# Altium schematic symbol library SCH - MCU - STM32 - ST MICROELECTRONICS STM32G484MEYX WLCSP81.SchLib: 1 symbol
Pins are listed as number, name and electrical type; pins without a type are passive.

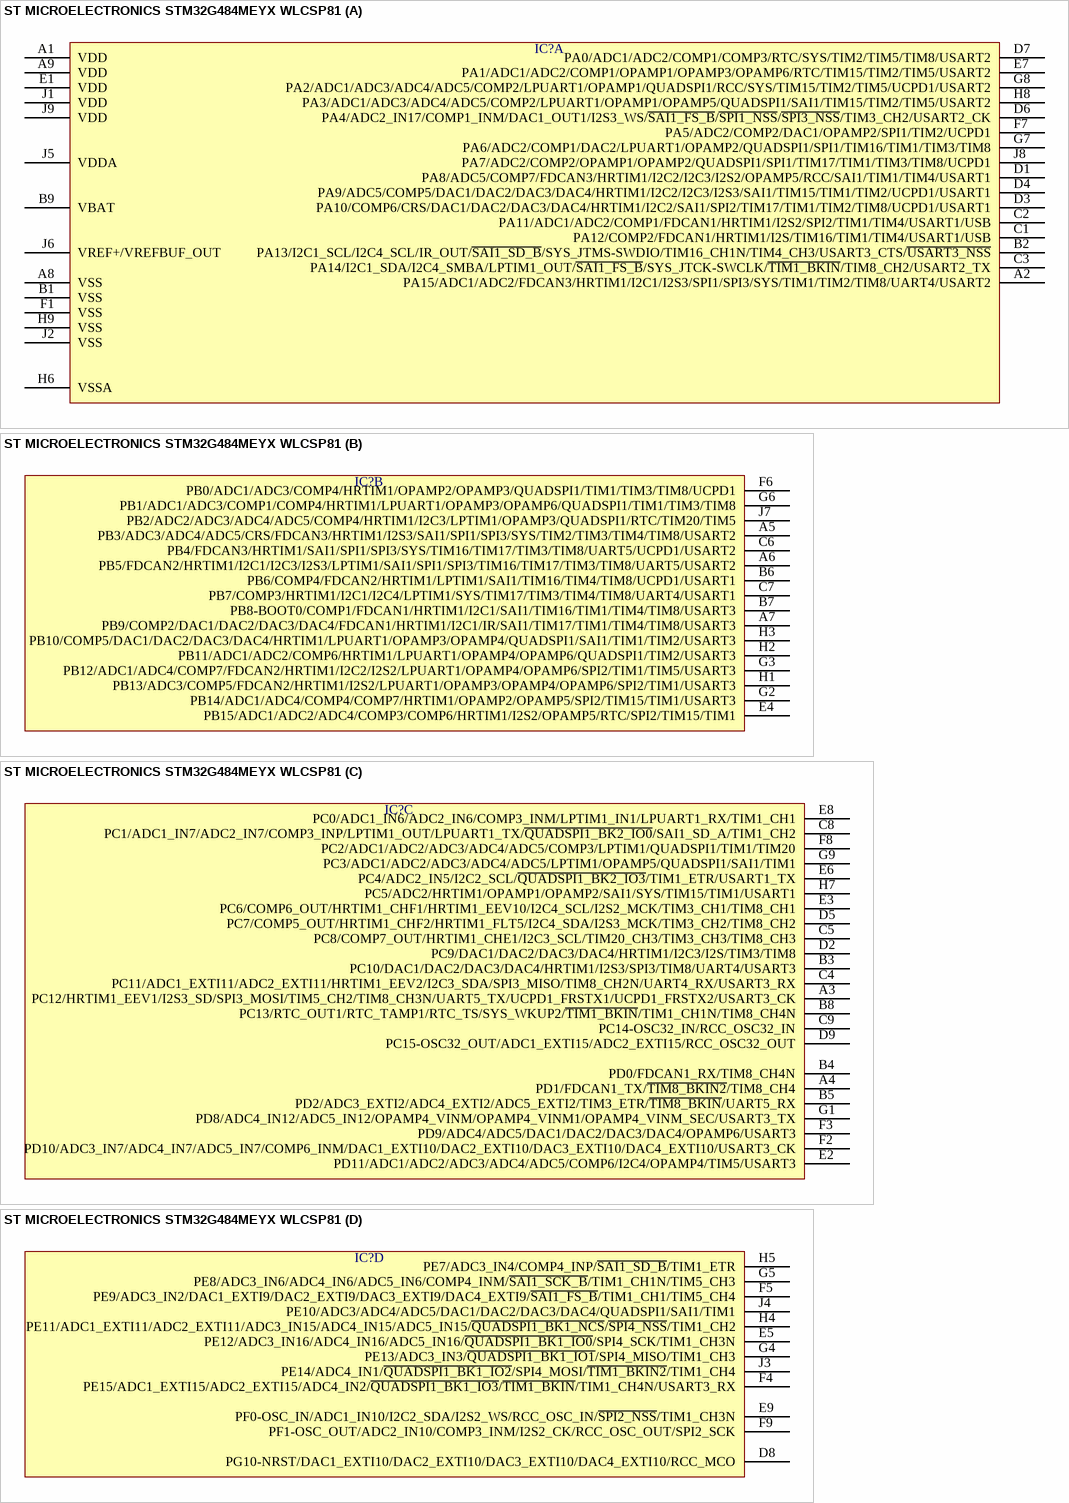
[diagram p0: symbol ST MICROELECTRONICS STM32G484MEYX WLCSP81]

## ST MICROELECTRONICS STM32G484MEYX WLCSP81
designator IC?  (value not drawn)
part A pins: A1 VDD, A2 PA15/ADC1/ADC2/FDCAN3/HRTIM1/I2C1/I2S3/SPI1/SPI3/SYS/TIM1/TIM2/TIM8/UART4/USART2, A8 VSS, A9 VDD, B1 VSS, B2 PA13/I2C1_SCL/I2C4_SCL/IR_OUT/~{SAI1_SD_B}/SYS_JTMS-SWDIO/TIM16_CH1N/TIM4_CH3/USART3_CTS/~{USART3_NSS}, B9 VBAT, C1 PA12/COMP2/FDCAN1/HRTIM1/I2S/TIM16/TIM1/TIM4/USART1/USB, C2 PA11/ADC1/ADC2/COMP1/FDCAN1/HRTIM1/I2S2/SPI2/TIM1/TIM4/USART1/USB, C3 PA14/I2C1_SDA/I2C4_SMBA/LPTIM1_OUT/~{SAI1_FS_B}/SYS_JTCK-SWCLK/~{TIM1_BKIN}/TIM8_CH2/USART2_TX, D1 PA8/ADC5/COMP7/FDCAN3/HRTIM1/I2C2/I2C3/I2S2/OPAMP5/RCC/SAI1/TIM1/TIM4/USART1, D3 PA10/COMP6/CRS/DAC1/DAC2/DAC3/DAC4/HRTIM1/I2C2/SAI1/SPI2/TIM17/TIM1/TIM2/TIM8/UCPD1/USART1, D4 PA9/ADC5/COMP5/DAC1/DAC2/DAC3/DAC4/HRTIM1/I2C2/I2C3/I2S3/SAI1/TIM15/TIM1/TIM2/UCPD1/USART1, D6 PA4/ADC2_IN17/COMP1_INM/DAC1_OUT1/I2S3_WS/~{SAI1_FS_B}/~{SPI1_NSS}/~{SPI3_NSS}/TIM3_CH2/USART2_CK, D7 PA0/ADC1/ADC2/COMP1/COMP3/RTC/SYS/TIM2/TIM5/TIM8/USART2, E1 VDD, E7 PA1/ADC1/ADC2/COMP1/OPAMP1/OPAMP3/OPAMP6/RTC/TIM15/TIM2/TIM5/USART2, F1 VSS, F7 PA5/ADC2/COMP2/DAC1/OPAMP2/SPI1/TIM2/UCPD1, G7 PA6/ADC2/COMP1/DAC2/LPUART1/OPAMP2/QUADSPI1/SPI1/TIM16/TIM1/TIM3/TIM8, G8 PA2/ADC1/ADC3/ADC4/ADC5/COMP2/LPUART1/OPAMP1/QUADSPI1/RCC/SYS/TIM15/TIM2/TIM5/UCPD1/USART2, H6 VSSA, H8 PA3/ADC1/ADC3/ADC4/ADC5/COMP2/LPUART1/OPAMP1/OPAMP5/QUADSPI1/SAI1/TIM15/TIM2/TIM5/USART2, H9 VSS, J1 VDD, J2 VSS, J5 VDDA, J6 VREF+/VREFBUF_OUT, J8 PA7/ADC2/COMP2/OPAMP1/OPAMP2/QUADSPI1/SPI1/TIM17/TIM1/TIM3/TIM8/UCPD1, J9 VDD
part B pins: A5 PB3/ADC3/ADC4/ADC5/CRS/FDCAN3/HRTIM1/I2S3/SAI1/SPI1/SPI3/SYS/TIM2/TIM3/TIM4/TIM8/USART2, A6 PB5/FDCAN2/HRTIM1/I2C1/I2C3/I2S3/LPTIM1/SAI1/SPI1/SPI3/TIM16/TIM17/TIM3/TIM8/UART5/USART2, A7 PB9/COMP2/DAC1/DAC2/DAC3/DAC4/FDCAN1/HRTIM1/I2C1/IR/SAI1/TIM17/TIM1/TIM4/TIM8/USART3, B6 PB6/COMP4/FDCAN2/HRTIM1/LPTIM1/SAI1/TIM16/TIM4/TIM8/UCPD1/USART1, B7 PB8-BOOT0/COMP1/FDCAN1/HRTIM1/I2C1/SAI1/TIM16/TIM1/TIM4/TIM8/USART3, C6 PB4/FDCAN3/HRTIM1/SAI1/SPI1/SPI3/SYS/TIM16/TIM17/TIM3/TIM8/UART5/UCPD1/USART2, C7 PB7/COMP3/HRTIM1/I2C1/I2C4/LPTIM1/SYS/TIM17/TIM3/TIM4/TIM8/UART4/USART1, E4 PB15/ADC1/ADC2/ADC4/COMP3/COMP6/HRTIM1/I2S2/OPAMP5/RTC/SPI2/TIM15/TIM1, F6 PB0/ADC1/ADC3/COMP4/HRTIM1/OPAMP2/OPAMP3/QUADSPI1/TIM1/TIM3/TIM8/UCPD1, G2 PB14/ADC1/ADC4/COMP4/COMP7/HRTIM1/OPAMP2/OPAMP5/SPI2/TIM15/TIM1/USART3, G3 PB12/ADC1/ADC4/COMP7/FDCAN2/HRTIM1/I2C2/I2S2/LPUART1/OPAMP4/OPAMP6/SPI2/TIM1/TIM5/USART3, G6 PB1/ADC1/ADC3/COMP1/COMP4/HRTIM1/LPUART1/OPAMP3/OPAMP6/QUADSPI1/TIM1/TIM3/TIM8, H1 PB13/ADC3/COMP5/FDCAN2/HRTIM1/I2S2/LPUART1/OPAMP3/OPAMP4/OPAMP6/SPI2/TIM1/USART3, H2 PB11/ADC1/ADC2/COMP6/HRTIM1/LPUART1/OPAMP4/OPAMP6/QUADSPI1/TIM2/USART3, H3 PB10/COMP5/DAC1/DAC2/DAC3/DAC4/HRTIM1/LPUART1/OPAMP3/OPAMP4/QUADSPI1/SAI1/TIM1/TIM2/USART3, J7 PB2/ADC2/ADC3/ADC4/ADC5/COMP4/HRTIM1/I2C3/LPTIM1/OPAMP3/QUADSPI1/RTC/TIM20/TIM5
part C pins: A3 PC12/HRTIM1_EEV1/I2S3_SD/SPI3_MOSI/TIM5_CH2/TIM8_CH3N/UART5_TX/UCPD1_FRSTX1/UCPD1_FRSTX2/USART3_CK, A4 PD1/FDCAN1_TX/~{TIM8_BKIN2}/TIM8_CH4, B3 PC10/DAC1/DAC2/DAC3/DAC4/HRTIM1/I2S3/SPI3/TIM8/UART4/USART3, B4 PD0/FDCAN1_RX/TIM8_CH4N, B5 PD2/ADC3_EXTI2/ADC4_EXTI2/ADC5_EXTI2/TIM3_ETR/~{TIM8_BKIN}/UART5_RX, B8 PC13/RTC_OUT1/RTC_TAMP1/RTC_TS/SYS_WKUP2/~{TIM1_BKIN}/TIM1_CH1N/TIM8_CH4N, C4 PC11/ADC1_EXTI11/ADC2_EXTI11/HRTIM1_EEV2/I2C3_SDA/SPI3_MISO/TIM8_CH2N/UART4_RX/USART3_RX, C5 PC8/COMP7_OUT/HRTIM1_CHE1/I2C3_SCL/TIM20_CH3/TIM3_CH3/TIM8_CH3, C8 PC1/ADC1_IN7/ADC2_IN7/COMP3_INP/LPTIM1_OUT/LPUART1_TX/~{QUADSPI1_BK2_IO0}/SAI1_SD_A/TIM1_CH2, C9 PC14-OSC32_IN/RCC_OSC32_IN, D2 PC9/DAC1/DAC2/DAC3/DAC4/HRTIM1/I2C3/I2S/TIM3/TIM8, D5 PC7/COMP5_OUT/HRTIM1_CHF2/HRTIM1_FLT5/I2C4_SDA/I2S3_MCK/TIM3_CH2/TIM8_CH2, D9 PC15-OSC32_OUT/ADC1_EXTI15/ADC2_EXTI15/RCC_OSC32_OUT, E2 PD11/ADC1/ADC2/ADC3/ADC4/ADC5/COMP6/I2C4/OPAMP4/TIM5/USART3, E3 PC6/COMP6_OUT/HRTIM1_CHF1/HRTIM1_EEV10/I2C4_SCL/I2S2_MCK/TIM3_CH1/TIM8_CH1, E6 PC4/ADC2_IN5/I2C2_SCL/~{QUADSPI1_BK2_IO3}/TIM1_ETR/USART1_TX, E8 PC0/ADC1_IN6/ADC2_IN6/COMP3_INM/LPTIM1_IN1/LPUART1_RX/TIM1_CH1, F2 PD10/ADC3_IN7/ADC4_IN7/ADC5_IN7/COMP6_INM/DAC1_EXTI10/DAC2_EXTI10/DAC3_EXTI10/DAC4_EXTI10/USART3_CK, F3 PD9/ADC4/ADC5/DAC1/DAC2/DAC3/DAC4/OPAMP6/USART3, F8 PC2/ADC1/ADC2/ADC3/ADC4/ADC5/COMP3/LPTIM1/QUADSPI1/TIM1/TIM20, G1 PD8/ADC4_IN12/ADC5_IN12/OPAMP4_VINM/OPAMP4_VINM1/OPAMP4_VINM_SEC/USART3_TX, G9 PC3/ADC1/ADC2/ADC3/ADC4/ADC5/LPTIM1/OPAMP5/QUADSPI1/SAI1/TIM1, H7 PC5/ADC2/HRTIM1/OPAMP1/OPAMP2/SAI1/SYS/TIM15/TIM1/USART1
part D pins: D8 PG10-NRST/DAC1_EXTI10/DAC2_EXTI10/DAC3_EXTI10/DAC4_EXTI10/RCC_MCO, E5 PE12/ADC3_IN16/ADC4_IN16/ADC5_IN16/~{QUADSPI1_BK1_IO0}/SPI4_SCK/TIM1_CH3N, E9 PF0-OSC_IN/ADC1_IN10/I2C2_SDA/I2S2_WS/RCC_OSC_IN/~{SPI2_NSS}/TIM1_CH3N, F4 PE15/ADC1_EXTI15/ADC2_EXTI15/ADC4_IN2/~{QUADSPI1_BK1_IO3}/~{TIM1_BKIN}/TIM1_CH4N/USART3_RX, F5 PE9/ADC3_IN2/DAC1_EXTI9/DAC2_EXTI9/DAC3_EXTI9/DAC4_EXTI9/~{SAI1_FS_B}/TIM1_CH1/TIM5_CH4, F9 PF1-OSC_OUT/ADC2_IN10/COMP3_INM/I2S2_CK/RCC_OSC_OUT/SPI2_SCK, G4 PE13/ADC3_IN3/~{QUADSPI1_BK1_IO1}/SPI4_MISO/TIM1_CH3, G5 PE8/ADC3_IN6/ADC4_IN6/ADC5_IN6/COMP4_INM/~{SAI1_SCK_B}/TIM1_CH1N/TIM5_CH3, H4 PE11/ADC1_EXTI11/ADC2_EXTI11/ADC3_IN15/ADC4_IN15/ADC5_IN15/~{QUADSPI1_BK1_NCS}/~{SPI4_NSS}/TIM1_CH2, H5 PE7/ADC3_IN4/COMP4_INP/~{SAI1_SD_B}/TIM1_ETR, J3 PE14/ADC4_IN1/~{QUADSPI1_BK1_IO2}/SPI4_MOSI/~{TIM1_BKIN2}/TIM1_CH4, J4 PE10/ADC3/ADC4/ADC5/DAC1/DAC2/DAC3/DAC4/QUADSPI1/SAI1/TIM1